# Altium integrated library SAMTEC-SFM-125-01-X-D-A.IntLib: 1 symbol
Pins are listed as number, name and electrical type; pins without a type are passive.

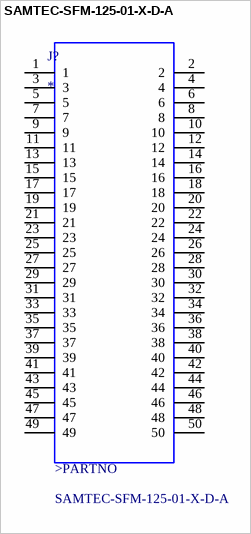
[diagram p0: symbol SAMTEC-SFM-125-01-X-D-A]

## SAMTEC-SFM-125-01-X-D-A
designator J?
MP: SAMTEC-SFM-125-01-X-D-A; Package: None; Value: *; Price: None; Availability: Unavailable
footprint SAMTEC-SFM-125-01-X-D-A
pins: 1, 2, 3, 4, 5, 6, 7, 8, 9, 10, 11, 12, 13, 14, 15, 16, 17, 18, 19, 20, 21, 22, 23, 24, 25, 26, 27, 28, 29, 30, 31, 32, 33, 34, 35, 36, 37, 38, 39, 40, 41, 42, 43, 44, 45, 46, 47, 48, 49, 50
text: >PARTNO